# Altium integrated library NSC Interface.IntLib: 504 symbols (part 11 of 16)
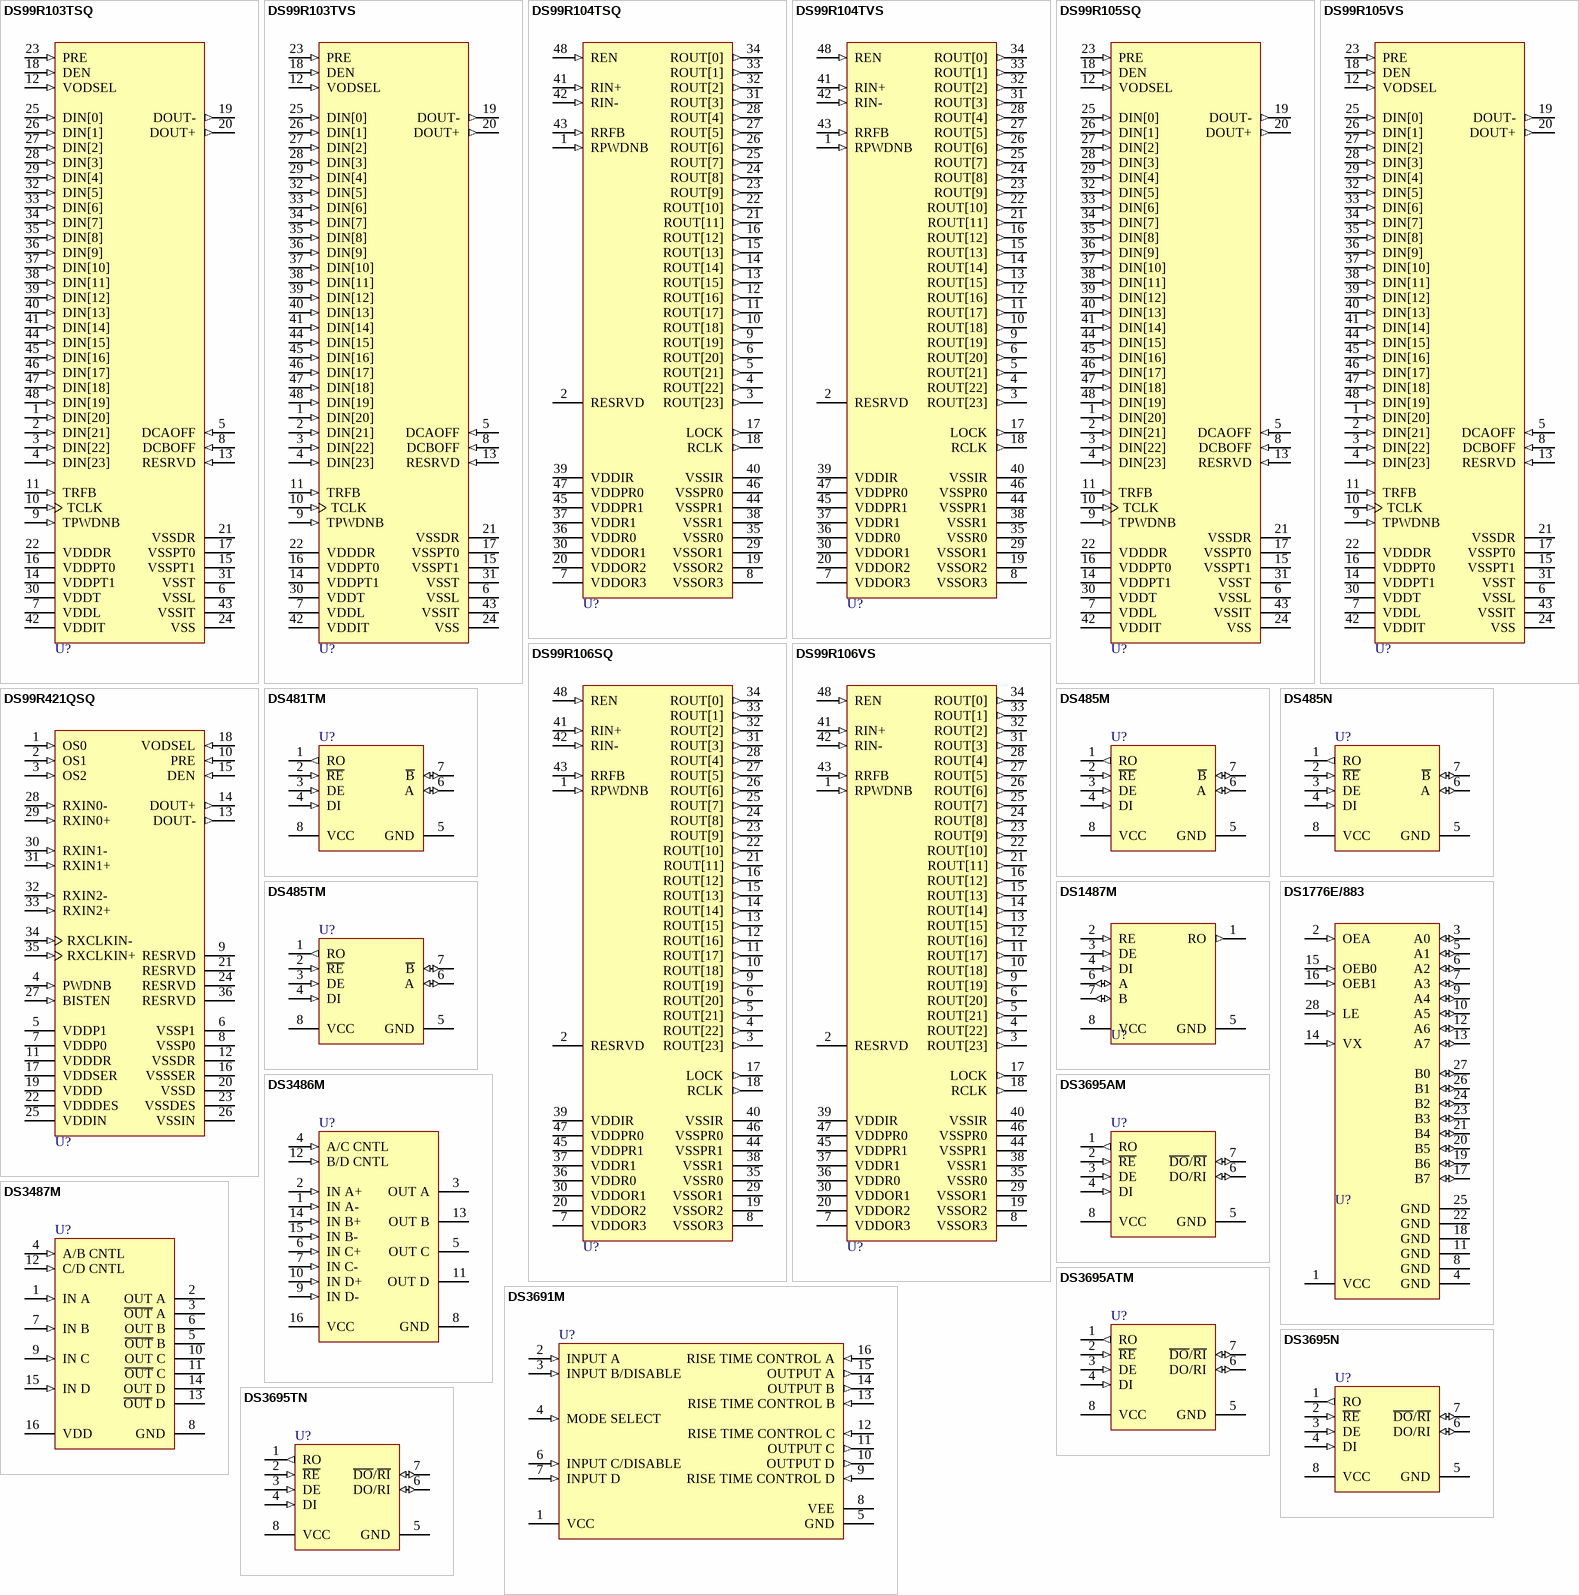
[diagram p51: symbols DS99R103TSQ to DS3695TN]

## DS3695ATM
designator U?
Multipoint RS485/RS422 Transceiver; PartNumber: DS3695ATM; Manufacturer: National Semiconductor; CompType: Interface IC; PackageTopMarking: NSZXTT*DS369*5ATM; PowerWise: N; Published: 4-Dec-2008; DatasheetVersion: Feb-1996; PackageVersion: revL, Sep-2006; PackageReference: M08A; Publisher: Altium Limited; PackageDescription: SOIC Narrow, 4.9 x 3.9 x 1.45mm, 8 Lead, 1.27mm Pitch; RoHS: O; PinCount: 8; DigiKeyPartNumber: DS3695ATM-ND; Code_JEDEC: MS-012-AA; Code_IPC: SOIC127P600-8; ComponentLink1Description: DS3695AT Datasheet; ComponentLink1URL: http://www.national.com/ds/DS/DS3695AT.pdf; ComponentLink2Description: DS3695AT Web Page; ComponentLink2URL: http://www.national.com/pf/DS/DS3695AT.html; ComponentLink3Description: M08A Package Page; ComponentLink3URL: http://www.national.com/packaging/folders/m08a.html
footprint M08A_N (SOIC, 8-Leads, Body 4.9x3.9mm, Pitch 1.27mm, IPC Medium Density)
footprint M08A_L (SOIC, 8-Leads, Body 4.9x3.9mm, Pitch 1.27mm, IPC High Density)
footprint M08A_M (SOIC, 8-Leads, Body 4.9x3.9mm, Pitch 1.27mm, IPC Low Density)
pins: 1 RO (out), 2 ~{RE} (in), 3 DE (in), 4 DI (in), 5 GND (power), 6 DO/RI (io), 7 ~{DO}/~{RI} (io), 8 VCC (power)

## DS3695N
designator U?
Multipoint RS485/RS422 Transceiver/Repeater; PartNumber: DS3695N; Manufacturer: National Semiconductor; CompType: Interface IC; PackageTopMarking: NSUZXYTT*DS3695N; PowerWise: N; Published: 4-Dec-2008; DatasheetVersion: May-1998; PackageVersion: revG, May-2006; PackageReference: N08E; Publisher: Altium Limited; PackageDescription: MDIP, .365 x .250 x .130in, 8 Lead, .100in Pitch; RoHS: O; PinCount: 8; DigiKeyPartNumber: DS3695N-ND; Code_JEDEC: MS-001-BA; ComponentLink1Description: DS3695 Datasheet; ComponentLink1URL: http://www.national.com/ds/DS/DS3695.pdf; ComponentLink2Description: DS3695 Web Page; ComponentLink2URL: http://www.national.com/pf/DS/DS3695.html; ComponentLink3Description: N08E Package Page; ComponentLink3URL: http://www.national.com/packaging/folders/n08e.html
footprint N08E (DIP, 8-Leads, Row Spacing 7.62mm, Pitch 2.54mm, Body 9.91x6.35mm)
pins: 1 RO (out), 2 ~{RE} (in), 3 DE (in), 4 DI (in), 5 GND (power), 6 DO/RI (io), 7 ~{DO}/~{RI} (io), 8 VCC (power)

## DS3695TN
designator U?
Multipoint RS485/RS422 Transceiver/Repeater; PartNumber: DS3695TN; Manufacturer: National Semiconductor; CompType: Interface IC; PackageTopMarking: NSUZXYTT*DS*3695TN; PowerWise: N; Published: 4-Dec-2008; DatasheetVersion: May-1998; PackageVersion: revG, May-2006; PackageReference: N08E; Publisher: Altium Limited; PackageDescription: MDIP, .365 x .250 x .130in, 8 Lead, .100in Pitch; RoHS: O; PinCount: 8; DigiKeyPartNumber: DS3695TN-ND; Code_JEDEC: MS-001-BA; ComponentLink1Description: DS3695T Datasheet; ComponentLink1URL: http://www.national.com/ds/DS/DS3695T.pdf; ComponentLink2Description: DS3695T Web Page; ComponentLink2URL: http://www.national.com/pf/DS/DS3695T.html; ComponentLink3Description: N08E Package Page; ComponentLink3URL: http://www.national.com/packaging/folders/n08e.html
footprint N08E (DIP, 8-Leads, Row Spacing 7.62mm, Pitch 2.54mm, Body 9.91x6.35mm)
pins: 1 RO (out), 2 ~{RE} (in), 3 DE (in), 4 DI (in), 5 GND (power), 6 DO/RI (io), 7 ~{DO}/~{RI} (io), 8 VCC (power)

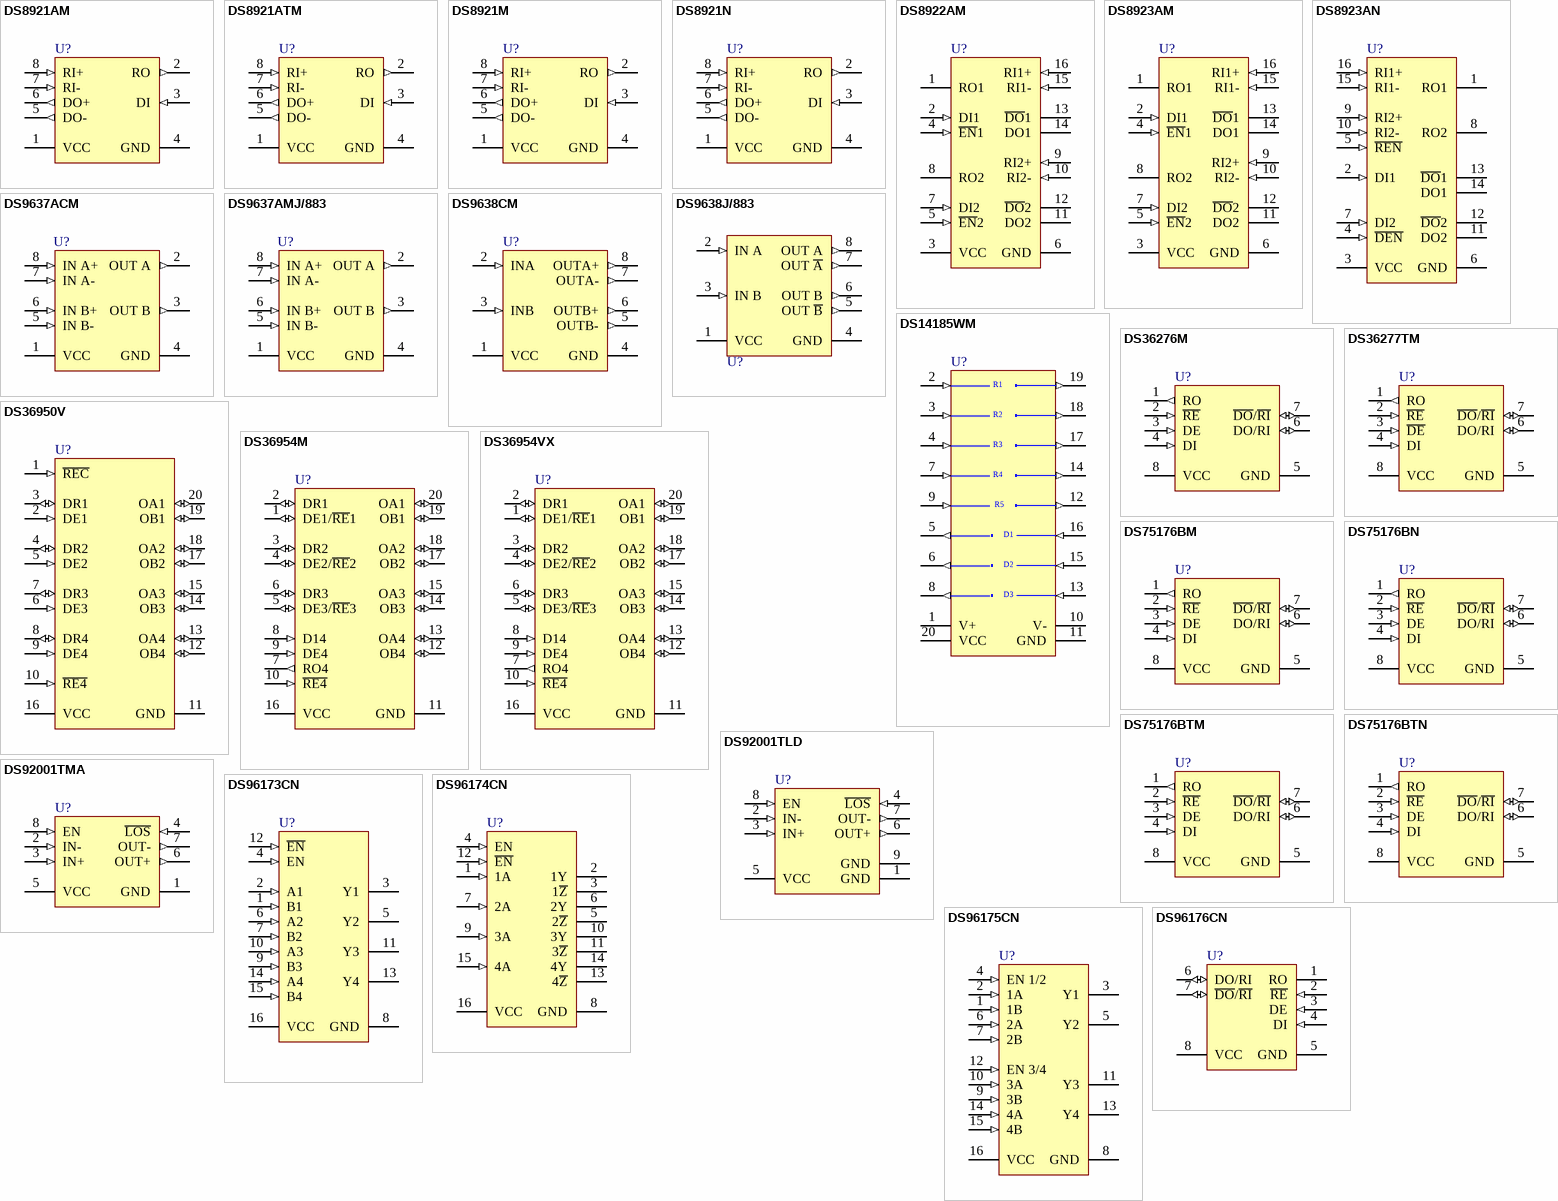
[diagram p28: symbols DS8921AM to DS96176CN]

## DS8921AM
designator U?
Differential Line Driver and Receiver Pair; PartNumber: DS8921AM; Manufacturer: National Semiconductor; CompType: Interface IC; PackageTopMarking: NSZXTT*DS89*21AM; PowerWise: N; Published: 4-Dec-2008; DatasheetVersion: May-1998; PackageVersion: revL, Sep-2006; PackageReference: M08A; Publisher: Altium Limited; PackageDescription: SOIC Narrow, 4.9 x 3.9 x 1.45mm, 8 Lead, 1.27mm Pitch; RoHS: O; PinCount: 8; DigiKeyPartNumber: DS8921AM-ND; Code_JEDEC: MS-012-AA; Code_IPC: SOIC127P600-8; ComponentLink1Description: DS8921A Datasheet; ComponentLink1URL: http://www.national.com/ds/DS/DS8921.pdf; ComponentLink2Description: DS8921A Web Page; ComponentLink2URL: http://www.national.com/pf/DS/DS8921A.html; ComponentLink3Description: M08A Package Page; ComponentLink3URL: http://www.national.com/packaging/folders/m08a.html
footprint M08A_N (SOIC, 8-Leads, Body 4.9x3.9mm, Pitch 1.27mm, IPC Medium Density)
footprint M08A_L (SOIC, 8-Leads, Body 4.9x3.9mm, Pitch 1.27mm, IPC High Density)
footprint M08A_M (SOIC, 8-Leads, Body 4.9x3.9mm, Pitch 1.27mm, IPC Low Density)
pins: 1 VCC (power), 2 RO (out), 3 DI (in), 4 GND (power), 5 DO- (out), 6 DO+ (out), 7 RI- (in), 8 RI+ (in)

## DS8921ATM
designator U?
Differential Line Driver and Receiver Pair; PartNumber: DS8921ATM; Manufacturer: National Semiconductor; CompType: Interface IC; PackageTopMarking: NSZXTT*DS892*1ATM; PowerWise: N; Published: 4-Dec-2008; DatasheetVersion: May-1998; PackageVersion: revL, Sep-2006; PackageReference: M08A; Publisher: Altium Limited; PackageDescription: SOIC Narrow, 4.9 x 3.9 x 1.45mm, 8 Lead, 1.27mm Pitch; RoHS: O; PinCount: 8; DigiKeyPartNumber: DS8921ATM-ND; Code_JEDEC: MS-012-AA; Code_IPC: SOIC127P600-8; ComponentLink1Description: DS8921AT Datasheet; ComponentLink1URL: http://www.national.com/ds/DS/DS8921.pdf; ComponentLink2Description: DS8921AT Web Page; ComponentLink2URL: http://www.national.com/pf/DS/DS8921AT.html; ComponentLink3Description: M08A Package Page; ComponentLink3URL: http://www.national.com/packaging/folders/m08a.html
footprint M08A_N (SOIC, 8-Leads, Body 4.9x3.9mm, Pitch 1.27mm, IPC Medium Density)
footprint M08A_L (SOIC, 8-Leads, Body 4.9x3.9mm, Pitch 1.27mm, IPC High Density)
footprint M08A_M (SOIC, 8-Leads, Body 4.9x3.9mm, Pitch 1.27mm, IPC Low Density)
pins: 1 VCC (power), 2 RO (out), 3 DI (in), 4 GND (power), 5 DO- (out), 6 DO+ (out), 7 RI- (in), 8 RI+ (in)

## DS8921M
designator U?
Differential Line Driver and Receiver Pair; PartNumber: DS8921M; Manufacturer: National Semiconductor; CompType: Interface IC; PackageTopMarking: NSZXTT*DS892*1M; PowerWise: N; Published: 4-Dec-2008; DatasheetVersion: May-1998; PackageVersion: revL, Sep-2006; PackageReference: M08A; Publisher: Altium Limited; PackageDescription: SOIC Narrow, 4.9 x 3.9 x 1.45mm, 8 Lead, 1.27mm Pitch; RoHS: Y; PinCount: 8; DigiKeyPartNumber: DS8921M-ND; Code_JEDEC: MS-012-AA; Code_IPC: SOIC127P600-8; ComponentLink1Description: DS8921 Datasheet; ComponentLink1URL: http://www.national.com/ds/DS/DS8921.pdf; ComponentLink2Description: DS8921 Web Page; ComponentLink2URL: http://www.national.com/pf/DS/DS8921.html; ComponentLink3Description: M08A Package Page; ComponentLink3URL: http://www.national.com/packaging/folders/m08a.html
footprint M08A_N (SOIC, 8-Leads, Body 4.9x3.9mm, Pitch 1.27mm, IPC Medium Density)
footprint M08A_L (SOIC, 8-Leads, Body 4.9x3.9mm, Pitch 1.27mm, IPC High Density)
footprint M08A_M (SOIC, 8-Leads, Body 4.9x3.9mm, Pitch 1.27mm, IPC Low Density)
pins: 1 VCC (power), 2 RO (out), 3 DI (in), 4 GND (power), 5 DO- (out), 6 DO+ (out), 7 RI- (in), 8 RI+ (in)

## DS8921N
designator U?
Differential Line Driver and Receiver Pair; PartNumber: DS8921N; Manufacturer: National Semiconductor; CompType: Interface IC; PackageTopMarking: NSUZXYTT*DS8921N; PowerWise: N; Published: 4-Dec-2008; DatasheetVersion: May-1998; PackageVersion: revG, May-2006; PackageReference: N08E; Publisher: Altium Limited; PackageDescription: MDIP, .365 x .250 x .130in, 8 Lead, .100in Pitch; RoHS: O; PinCount: 8; DigiKeyPartNumber: DS8921N-ND; Code_JEDEC: MS-001-BA; ComponentLink1Description: DS8921 Datasheet; ComponentLink1URL: http://www.national.com/ds/DS/DS8921.pdf; ComponentLink2Description: DS8921 Web Page; ComponentLink2URL: http://www.national.com/pf/DS/DS8921.html; ComponentLink3Description: N08E Package Page; ComponentLink3URL: http://www.national.com/packaging/folders/n08e.html
footprint N08E (DIP, 8-Leads, Row Spacing 7.62mm, Pitch 2.54mm, Body 9.91x6.35mm)
pins: 1 VCC (power), 2 RO (out), 3 DI (in), 4 GND (power), 5 DO- (out), 6 DO+ (out), 7 RI- (in), 8 RI+ (in)

## DS8922AM
designator U?
Tri-State RS-422 Dual Differential Line Driver and Receiver Pairs; PartNumber: DS8922AM; Manufacturer: National Semiconductor; CompType: Interface IC; PackageTopMarking: NSUZXYTT*DS8922AM; PowerWise: N; Published: 4-Dec-2008; DatasheetVersion: Jul-2004; PackageVersion: revJ, Aug-1995; PackageReference: M16A; Publisher: Altium Limited; PackageDescription: Molded Package, S.O., .150in Wide, 16 Lead; RoHS: O; PinCount: 16; DigiKeyPartNumber: DS8922AM-ND; Code_JEDEC: MS-012-AC; Code_IPC: SOIC127P600-16; ComponentLink1Description: DS8922A Datasheet; ComponentLink1URL: http://www.national.com/ds/DS/DS8922A.pdf; ComponentLink2Description: DS8922A Web Page; ComponentLink2URL: http://www.national.com/pf/DS/DS8922A.html; ComponentLink3Description: M16A Package Page; ComponentLink3URL: http://www.national.com/packaging/folders/m16a.html
footprint M16A_N (SOIC, 16-Leads, Body 9.9x3.9mm, Pitch 1.27mm, IPC Medium Density)
footprint M16A_L (SOIC, 16-Leads, Body 9.9x3.9mm, Pitch 1.27mm, IPC High Density)
footprint M16A_M (SOIC, 16-Leads, Body 9.9x3.9mm, Pitch 1.27mm, IPC Low Density)
pins: 1 RO1 (hiz), 2 DI1 (in), 3 VCC (power), 4 ~{EN}1 (in), 5 ~{EN}2 (in), 6 GND (power), 7 DI2 (in), 8 RO2 (hiz), 9 RI2+ (in), 10 RI2- (in), 11 DO2 (hiz), 12 ~{DO}2 (hiz), 13 ~{DO}1 (hiz), 14 DO1 (hiz), 15 RI1- (in), 16 RI1+ (in)

## DS8923AM
designator U?
Tri-State RS-422 Dual Differential Line Driver and Receiver Pairs; PartNumber: DS8923AM; Manufacturer: National Semiconductor; CompType: Interface IC; PackageTopMarking: NSUZXYTT*DS8923AM; PowerWise: N; Published: 4-Dec-2008; DatasheetVersion: Jul-2004; PackageVersion: revJ, Aug-1995; PackageReference: M16A; Publisher: Altium Limited; PackageDescription: Molded Package, S.O., .150in Wide, 16 Lead; RoHS: O; PinCount: 16; DigiKeyPartNumber: DS8923AM-ND; Code_JEDEC: MS-012-AC; Code_IPC: SOIC127P600-16; ComponentLink1Description: DS8923A Datasheet; ComponentLink1URL: http://www.national.com/ds/DS/DS8923A.pdf; ComponentLink2Description: DS8923A Web Page; ComponentLink2URL: http://www.national.com/pf/DS/DS8923A.html; ComponentLink3Description: M16A Package Page; ComponentLink3URL: http://www.national.com/packaging/folders/m16a.html
footprint M16A_N (SOIC, 16-Leads, Body 9.9x3.9mm, Pitch 1.27mm, IPC Medium Density)
footprint M16A_L (SOIC, 16-Leads, Body 9.9x3.9mm, Pitch 1.27mm, IPC High Density)
footprint M16A_M (SOIC, 16-Leads, Body 9.9x3.9mm, Pitch 1.27mm, IPC Low Density)
pins: 1 RO1 (hiz), 2 DI1 (in), 3 VCC (power), 4 ~{EN}1 (in), 5 ~{EN}2 (in), 6 GND (power), 7 DI2 (in), 8 RO2 (hiz), 9 RI2+ (in), 10 RI2- (in), 11 DO2 (hiz), 12 ~{DO}2 (hiz), 13 ~{DO}1 (hiz), 14 DO1 (hiz), 15 RI1- (in), 16 RI1+ (in)

## DS8923AN
designator U?
Tri-State RS-422 Dual Differential Line Driver and Receiver Pairs; PartNumber: DS8923AN; Manufacturer: National Semiconductor; CompType: Interface IC; PackageTopMarking: NSUZXYYTT*DS8923AN; PowerWise: N; Published: 4-Dec-2008; DatasheetVersion: Jul-2004; PackageVersion: revG, May-2006; PackageReference: N16E; Publisher: Altium Limited; PackageDescription: MDIP, .750 x .250 x.130in, 16 Lead, .100in Pitch; RoHS: Y; PinCount: 16; DigiKeyPartNumber: DS8923AN-ND; Code_JEDEC: MS-001-BB; ComponentLink1Description: DS8923A Datasheet; ComponentLink1URL: http://www.national.com/ds/DS/DS8923A.pdf; ComponentLink2Description: DS8923A Web Page; ComponentLink2URL: http://www.national.com/pf/DS/DS8923A.html; ComponentLink3Description: N16E Package Page; ComponentLink3URL: http://www.national.com/packaging/folders/n16e.html
footprint N16E (DIP, 16-Leads, Row Spacing 7.62mm, Pitch 2.54mm, Body 19.3x6.35mm)
pins: 1 RO1 (hiz), 2 DI1 (in), 3 VCC (power), 4 ~{DEN} (in), 5 ~{REN} (in), 6 GND (power), 7 DI2 (in), 8 RO2 (hiz), 9 RI2+ (in), 10 RI2- (in), 11 DO2 (hiz), 12 ~{DO}2 (hiz), 13 ~{DO}1 (hiz), 14 DO1 (hiz), 15 RI1- (in), 16 RI1+ (in)

## DS9637ACM
designator U?
Dual Differential Line Receiver; PartNumber: DS9637ACM; Manufacturer: National Semiconductor; CompType: Interface IC; PackageTopMarking: NSZXTT*DS963*7ACM; PowerWise: N; Published: 4-Dec-2008; DatasheetVersion: Dec-2007; PackageVersion: revL, Sep-2006; PackageReference: M08A; Publisher: Altium Limited; PackageDescription: SOIC Narrow, 4.9 x 3.9 x 1.45mm, 8 Lead, 1.27mm Pitch; RoHS: O; PinCount: 8; DigiKeyPartNumber: DS9637ACM-ND; Code_JEDEC: MS-012-AA; Code_IPC: SOIC127P600-8; ComponentLink1Description: DS9637A Datasheet; ComponentLink1URL: http://www.national.com/ds/DS/DS9637A.pdf; ComponentLink2Description: DS9637A Web Page; ComponentLink2URL: http://www.national.com/pf/DS/DS9637A.html; ComponentLink3Description: M08A Package Page; ComponentLink3URL: http://www.national.com/packaging/folders/m08a.html
footprint M08A_N (SOIC, 8-Leads, Body 4.9x3.9mm, Pitch 1.27mm, IPC Medium Density)
footprint M08A_L (SOIC, 8-Leads, Body 4.9x3.9mm, Pitch 1.27mm, IPC High Density)
footprint M08A_M (SOIC, 8-Leads, Body 4.9x3.9mm, Pitch 1.27mm, IPC Low Density)
pins: 1 VCC (power), 2 OUT A (out), 3 OUT B (out), 4 GND (power), 5 IN B- (in), 6 IN B+ (in), 7 IN A- (in), 8 IN A+ (in)

## DS9637AMJ/883
designator U?
Dual Differential Line Receiver; PartNumber: DS9637AMJ/883; Manufacturer: National Semiconductor; CompType: Interface IC; PackageTopMarking: NSZSSXXYYA*DS9637AMJ/*883 Q 5962-*8752401PA; PowerWise: N; Published: 4-Dec-2008; DatasheetVersion: Dec-2007; PackageVersion: revM, Jul-2002; PackageReference: J08A; Publisher: Altium Limited; PackageDescription: Cerdip, .400 x .310in Body, 8 Lead, .300in Centers, .100in Pitch; RoHS: N; PinCount: 8; ComponentLink1Description: DS9637A Datasheet; ComponentLink1URL: http://www.national.com/ds/DS/DS9637A.pdf; ComponentLink2Description: DS9637A Web Page; ComponentLink2URL: http://www.national.com/pf/DS/DS9637A.html; ComponentLink3Description: J08A Package Page; ComponentLink3URL: http://www.national.com/packaging/folders/j08a.html
footprint J08A (DIP, 8-Leads, Row Spacing 7.62mm, Pitch 2.54mm, Body 9.78x6.73mm)
pins: 1 VCC (power), 2 OUT A (out), 3 OUT B (out), 4 GND (power), 5 IN B- (in), 6 IN B+ (in), 7 IN A- (in), 8 IN A+ (in)

## DS9638CM
designator U?
RS-422 Dual High Speed Differential Line Driver; PartNumber: DS9638CM; Manufacturer: National Semiconductor; CompType: Interface IC; PackageTopMarking: NSZXTT*DS963*8CM; PowerWise: N; Published: 4-Dec-2008; DatasheetVersion: May-1998; PackageVersion: revL, Sep-2006; PackageReference: M08A; Publisher: Altium Limited; PackageDescription: SOIC Narrow, 4.9 x 3.9 x 1.45mm, 8 Lead, 1.27mm Pitch; RoHS: Y; PinCount: 8; DigiKeyPartNumber: DS9638CM-ND; Code_JEDEC: MS-012-AA; Code_IPC: SOIC127P600-8; ComponentLink1Description: DS9638 Datasheet; ComponentLink1URL: http://www.national.com/ds/DS/DS9638.pdf; ComponentLink2Description: DS9638 Web Page; ComponentLink2URL: http://www.national.com/pf/DS/DS9638.html; ComponentLink3Description: M08A Package Page; ComponentLink3URL: http://www.national.com/packaging/folders/m08a.html
footprint M08A_N (SOIC, 8-Leads, Body 4.9x3.9mm, Pitch 1.27mm, IPC Medium Density)
footprint M08A_L (SOIC, 8-Leads, Body 4.9x3.9mm, Pitch 1.27mm, IPC High Density)
footprint M08A_M (SOIC, 8-Leads, Body 4.9x3.9mm, Pitch 1.27mm, IPC Low Density)
pins: 1 VCC (power), 2 INA (in), 3 INB (in), 4 GND (power), 5 OUTB- (out), 6 OUTB+ (out), 7 OUTA- (out), 8 OUTA+ (out)

## DS9638J/883
designator U?
RS-422 Dual High Speed Differential Line Driver; PartNumber: DS9638J/883; Manufacturer: National Semiconductor; CompType: Interface IC; PackageTopMarking: NSZSSXXYYA*DS9638J/883*Q 5962-*8754601PA; PowerWise: N; Published: 4-Dec-2008; DatasheetVersion: May-1998; PackageVersion: revM, Jul-2002; PackageReference: J08A; Publisher: Altium Limited; PackageDescription: Cerdip, .400 x .310in Body, 8 Lead, .300in Centers, .100in Pitch; RoHS: N; PinCount: 8; ComponentLink1Description: DS9638 Datasheet; ComponentLink1URL: http://www.national.com/ds/DS/DS9638.pdf; ComponentLink2Description: DS9638 Web Page; ComponentLink2URL: http://www.national.com/pf/DS/DS9638.html; ComponentLink3Description: J08A Package Page; ComponentLink3URL: http://www.national.com/packaging/folders/j08a.html
footprint J08A (DIP, 8-Leads, Row Spacing 7.62mm, Pitch 2.54mm, Body 9.78x6.73mm)
pins: 1 VCC (power), 2 IN A (in), 3 IN B (in), 4 GND (power), 5 OUT ~{B} (out), 6 OUT B (out), 7 OUT ~{A} (out), 8 OUT A (out)

## DS14185WM
designator U?
EIA/TIA-232 3 Driver x 5 Receiver; PartNumber: DS14185WM; Manufacturer: National Semiconductor; CompType: Interface IC; PackageTopMarking: NSUZXYTT*DS14185WM; PowerWise: N; Published: 4-Dec-2008; DatasheetVersion: Apr-1999; PackageVersion: revG, Jan-1996; PackageReference: M20B; Publisher: Altium Limited; PackageDescription: Molded Package, S.O., .300in Wide, 20 Lead; RoHS: O; PinCount: 20; DigiKeyPartNumber: DS14185WM-ND; Code_JEDEC: MS-013-AC; Code_IPC: SOIC127P1030-20; ComponentLink1Description: DS14185 Datasheet; ComponentLink1URL: http://www.national.com/ds/DS/DS14185.pdf; ComponentLink2Description: DS14185 Web Page; ComponentLink2URL: http://www.national.com/pf/DS/DS14185.html; ComponentLink3Description: M20B Package Page; ComponentLink3URL: http://www.national.com/packaging/folders/m20b.html
footprint M20B_N (SOIC, 20-Leads, Body 12.8x7.5mm, Pitch 1.27mm, IPC Medium Density)
footprint M20B_L (SOIC, 20-Leads, Body 12.8x7.5mm, Pitch 1.27mm, IPC High Density)
footprint M20B_M (SOIC, 20-Leads, Body 12.8x7.5mm, Pitch 1.27mm, IPC Low Density)
pins: 1 V+ (power), 2 RIN1 (in), 3 RIN2 (in), 4 RIN3 (in), 5 DOUT1 (out), 6 DOUT2 (out), 7 RIN4 (in), 8 DOUT3 (out), 9 RIN5 (in), 10 V- (power), 11 GND (power), 12 ROUT5 (out), 13 DIN3 (in), 14 ROUT4 (out), 15 DIN2 (in), 16 DIN1 (in), 17 ROUT3 (out), 18 ROUT2 (out), 19 ROUT1 (out), 20 VCC (power)
text: R1; R2; R3; R4; R5; D1; D2; D3

## DS36276M
designator U?
FailSafe Multipoint Transceiver; PartNumber: DS36276M; Manufacturer: National Semiconductor; CompType: Interface IC; PackageTopMarking: NSZXTT*DS36*276M; PowerWise: N; Published: 4-Dec-2008; DatasheetVersion: Jul-1998; PackageVersion: revL, Sep-2006; PackageReference: M08A; Publisher: Altium Limited; PackageDescription: SOIC Narrow, 4.9 x 3.9 x 1.45mm, 8 Lead, 1.27mm Pitch; RoHS: O; PinCount: 8; DigiKeyPartNumber: DS36276M-ND; Code_JEDEC: MS-012-AA; Code_IPC: SOIC127P600-8; ComponentLink1Description: DS36276 Datasheet; ComponentLink1URL: http://www.national.com/ds/DS/DS36276.pdf; ComponentLink2Description: DS36276 Web Page; ComponentLink2URL: http://www.national.com/pf/DS/DS36276.html; ComponentLink3Description: M08A Package Page; ComponentLink3URL: http://www.national.com/packaging/folders/m08a.html
footprint M08A_N (SOIC, 8-Leads, Body 4.9x3.9mm, Pitch 1.27mm, IPC Medium Density)
footprint M08A_L (SOIC, 8-Leads, Body 4.9x3.9mm, Pitch 1.27mm, IPC High Density)
footprint M08A_M (SOIC, 8-Leads, Body 4.9x3.9mm, Pitch 1.27mm, IPC Low Density)
pins: 1 RO (out), 2 ~{RE} (in), 3 DE (in), 4 DI (in), 5 GND (power), 6 DO/RI (io), 7 ~{DO}/~{RI} (io), 8 VCC (power)

## DS36277TM
designator U?
Dominant Mode Multipoint Transceiver; PartNumber: DS36277TM; Manufacturer: National Semiconductor; CompType: Interface IC; PackageTopMarking: NSZXTT*DS362*77TM; Published: 4-Dec-2008; DatasheetVersion: Feb-2002; PackageVersion: revL, Sep-2006; PackageReference: M08A; Publisher: Altium Limited; PackageDescription: SOIC Narrow, 4.9 x 3.9 x 1.45mm, 8 Lead, 1.27mm Pitch; RoHS: O; PinCount: 8; DigiKeyPartNumber: DS36277TM-ND; Code_JEDEC: MS-012-AA; Code_IPC: SOIC127P600-8; ComponentLink1Description: DS36277 Datasheet; ComponentLink1URL: http://www.national.com/ds/DS/DS36277.pdf; ComponentLink2Description: DS36277 Web Page; ComponentLink2URL: http://www.national.com/pf/DS/DS36277.html; ComponentLink3Description: M08A Package Page; ComponentLink3URL: http://www.national.com/packaging/folders/m08a.html
footprint M08A_N (SOIC, 8-Leads, Body 4.9x3.9mm, Pitch 1.27mm, IPC Medium Density)
footprint M08A_L (SOIC, 8-Leads, Body 4.9x3.9mm, Pitch 1.27mm, IPC High Density)
footprint M08A_M (SOIC, 8-Leads, Body 4.9x3.9mm, Pitch 1.27mm, IPC Low Density)
pins: 1 RO (out), 2 ~{RE} (in), 3 ~{DE} (in), 4 DI (in), 5 GND (power), 6 DO/RI (io), 7 ~{DO}/~{RI} (io), 8 VCC (power)

## DS36950V
designator U?
Quad Differential Bus Transceiver; PartNumber: DS36950V; Manufacturer: National Semiconductor; CompType: Interface IC; PackageTopMarking: NSUZXYTT*DS36950V; Published: 4-Dec-2008; DatasheetVersion: Jul-1998; PackageVersion: revL, Dec-1993; PackageReference: V20A; Publisher: Altium Limited; PackageDescription: Plastic Chip Carrier, Sq., .050mil Lead Pitch, 20 Lead; RoHS: O; PinCount: 20; DigiKeyPartNumber: DS36950V-ND; Code_JEDEC: MO-047-AA; Code_IPC: PLCC-20; ComponentLink1Description: DS36950 Datasheet; ComponentLink1URL: http://www.national.com/ds/DS/DS36950.pdf; ComponentLink2Description: DS36950 Web Page; ComponentLink2URL: http://www.national.com/pf/DS/DS36950.html; ComponentLink3Description: V20A Package Page; ComponentLink3URL: http://www.national.com/packaging/folders/v20a.html
footprint V20A_N (Leaded Chip Carrier, 20-Leads, Body 9x9mm, Pitch 1.27mm, IPC Medium Density)
footprint V20A_L (Leaded Chip Carrier, 20-Leads, Body 9x9mm, Pitch 1.27mm, IPC High Density)
footprint V20A_M (Leaded Chip Carrier, 20-Leads, Body 9x9mm, Pitch 1.27mm, IPC Low Density)
pins: 1 ~{REC} (in), 2 DE1 (in), 3 DR1 (io), 4 DR2 (io), 5 DE2 (in), 6 DE3 (in), 7 DR3 (io), 8 DR4 (io), 9 DE4 (in), 10 ~{RE4} (in), 11 GND (power), 12 OB4 (io), 13 OA4 (io), 14 OB3 (io), 15 OA3 (io), 16 VCC (power), 17 OB2 (io), 18 OA2 (io), 19 OB1 (io), 20 OA1 (io)

## DS36954M
designator U?
Quad Differential Bus Transceiver; PartNumber: DS36954M; Manufacturer: National Semiconductor; CompType: Interface IC; PackageTopMarking: NSUZXYTT*DS36954*M; PowerWise: N; Published: 4-Dec-2008; DatasheetVersion: Jul-1998; PackageVersion: revG, Jan-1996; PackageReference: M20B; Publisher: Altium Limited; PackageDescription: Molded Package, S.O., .300in Wide, 20 Lead; RoHS: O; PinCount: 20; DigiKeyPartNumber: DS36954M-ND; Code_JEDEC: MS-013-AC; Code_IPC: SOIC127P1030-20; ComponentLink1Description: DS36954 Datasheet; ComponentLink1URL: http://www.national.com/ds/DS/DS36954.pdf; ComponentLink2Description: DS36954 Web Page; ComponentLink2URL: http://www.national.com/pf/DS/DS36954.html; ComponentLink3Description: M20B Package Page; ComponentLink3URL: http://www.national.com/packaging/folders/m20b.html
footprint M20B_N (SOIC, 20-Leads, Body 12.8x7.5mm, Pitch 1.27mm, IPC Medium Density)
footprint M20B_L (SOIC, 20-Leads, Body 12.8x7.5mm, Pitch 1.27mm, IPC High Density)
footprint M20B_M (SOIC, 20-Leads, Body 12.8x7.5mm, Pitch 1.27mm, IPC Low Density)
pins: 1 DE1/~{RE}1 (io), 2 DR1 (io), 3 DR2 (io), 4 DE2/~{RE}2 (io), 5 DE3/~{RE}3 (io), 6 DR3 (io), 7 RO4 (out), 8 D14 (in), 9 DE4 (in), 10 ~{RE4} (in), 11 GND (power), 12 OB4 (io), 13 OA4 (io), 14 OB3 (io), 15 OA3 (io), 16 VCC (power), 17 OB2 (io), 18 OA2 (io), 19 OB1 (io), 20 OA1 (io)

## DS36954VX
designator U?
Quad Differential Bus Transceiver; PartNumber: DS36954VX; Manufacturer: National Semiconductor; CompType: Interface IC; PackageTopMarking: NSUZXYTT*DS36954V; PowerWise: N; Published: 4-Dec-2008; DatasheetVersion: Jul-1998; PackageVersion: revL, Dec-1993; PackageReference: V20A; Publisher: Altium Limited; PackageDescription: Plastic Chip Carrier, Sq., .050mil Lead Pitch, 20 Lead; RoHS: O; PinCount: 20; DigiKeyPartNumber: DS36954VX-ND; Code_JEDEC: MO-047-AA; Code_IPC: PLCC-20; ComponentLink1Description: DS36954 Datasheet; ComponentLink1URL: http://www.national.com/ds/DS/DS36954.pdf; ComponentLink2Description: DS36954 Web Page; ComponentLink2URL: http://www.national.com/pf/DS/DS36954.html; ComponentLink3Description: V20A Package Page; ComponentLink3URL: http://www.national.com/packaging/folders/v20a.html
footprint V20A_N (Leaded Chip Carrier, 20-Leads, Body 9x9mm, Pitch 1.27mm, IPC Medium Density)
footprint V20A_L (Leaded Chip Carrier, 20-Leads, Body 9x9mm, Pitch 1.27mm, IPC High Density)
footprint V20A_M (Leaded Chip Carrier, 20-Leads, Body 9x9mm, Pitch 1.27mm, IPC Low Density)
pins: 1 DE1/~{RE}1 (io), 2 DR1 (io), 3 DR2 (io), 4 DE2/~{RE}2 (io), 5 DE3/~{RE}3 (io), 6 DR3 (io), 7 RO4 (out), 8 D14 (in), 9 DE4 (in), 10 ~{RE4} (in), 11 GND (power), 12 OB4 (io), 13 OA4 (io), 14 OB3 (io), 15 OA3 (io), 16 VCC (power), 17 OB2 (io), 18 OA2 (io), 19 OB1 (io), 20 OA1 (io)

## DS75176BM
designator U?
Multipoint RS-485/RS-422 Transceiver; PartNumber: DS75176BM; Manufacturer: National Semiconductor; CompType: Interface IC; PackageTopMarking: NSZXTT*DS751*76BM; PowerWise: N; Published: 4-Dec-2008; DatasheetVersion: Jul-2004; PackageVersion: revL, Sep-2006; PackageReference: M08A; Publisher: Altium Limited; PackageDescription: SOIC Narrow, 4.9 x 3.9 x 1.45mm, 8 Lead, 1.27mm Pitch; RoHS: O; PinCount: 8; DigiKeyPartNumber: DS75176BM-ND; Code_JEDEC: MS-012-AA; Code_IPC: SOIC127P600-8; ComponentLink1Description: DS75176B Datasheet; ComponentLink1URL: http://www.national.com/ds/DS/DS75176B.pdf; ComponentLink2Description: DS75176B Web Page; ComponentLink2URL: http://www.national.com/pf/DS/DS75176B.html; ComponentLink3Description: M08A Package Page; ComponentLink3URL: http://www.national.com/packaging/folders/m08a.html
footprint M08A_N (SOIC, 8-Leads, Body 4.9x3.9mm, Pitch 1.27mm, IPC Medium Density)
footprint M08A_L (SOIC, 8-Leads, Body 4.9x3.9mm, Pitch 1.27mm, IPC High Density)
footprint M08A_M (SOIC, 8-Leads, Body 4.9x3.9mm, Pitch 1.27mm, IPC Low Density)
pins: 1 RO (out), 2 ~{RE} (in), 3 DE (in), 4 DI (in), 5 GND (power), 6 DO/RI (io), 7 ~{DO}/~{RI} (io), 8 VCC (power)

## DS75176BN
designator U?
Multipoint RS-485/RS-422 Transceiver; PartNumber: DS75176BN; Manufacturer: National Semiconductor; CompType: Interface IC; PackageTopMarking: NSUZXYTT*DS75176BN; PowerWise: N; Published: 4-Dec-2008; DatasheetVersion: Jul-2004; PackageVersion: revG, May-2006; PackageReference: N08E; Publisher: Altium Limited; PackageDescription: MDIP, .365 x .250 x .130in, 8 Lead, .100in Pitch; RoHS: O; PinCount: 8; DigiKeyPartNumber: DS75176BN-ND; Code_JEDEC: MS-001-BA; ComponentLink1Description: DS75176B Datasheet; ComponentLink1URL: http://www.national.com/ds/DS/DS75176B.pdf; ComponentLink2Description: DS75176B Web Page; ComponentLink2URL: http://www.national.com/pf/DS/DS75176B.html; ComponentLink3Description: N08E Package Page; ComponentLink3URL: http://www.national.com/packaging/folders/n08e.html
footprint N08E (DIP, 8-Leads, Row Spacing 7.62mm, Pitch 2.54mm, Body 9.91x6.35mm)
pins: 1 RO (out), 2 ~{RE} (in), 3 DE (in), 4 DI (in), 5 GND (power), 6 DO/RI (io), 7 ~{DO}/~{RI} (io), 8 VCC (power)

## DS75176BTM
designator U?
Multipoint RS-485/RS-422 Transceiver; PartNumber: DS75176BTM; Manufacturer: National Semiconductor; CompType: Interface IC; PackageTopMarking: NSZXTT*DS751*76BTM; PowerWise: N; Published: 4-Dec-2008; DatasheetVersion: Jul-2004; PackageVersion: revL, Sep-2006; PackageReference: M08A; Publisher: Altium Limited; PackageDescription: SOIC Narrow, 4.9 x 3.9 x 1.45mm, 8 Lead, 1.27mm Pitch; RoHS: O; PinCount: 8; DigiKeyPartNumber: DS75176BTM-ND; Code_JEDEC: MS-012-AA; Code_IPC: SOIC127P600-8; ComponentLink1Description: DS75176BT Datasheet; ComponentLink1URL: http://www.national.com/ds/DS/DS75176BT.pdf; ComponentLink2Description: DS75176BT Web Page; ComponentLink2URL: http://www.national.com/pf/DS/DS75176BT.html; ComponentLink3Description: M08A Package Page; ComponentLink3URL: http://www.national.com/packaging/folders/m08a.html
footprint M08A_N (SOIC, 8-Leads, Body 4.9x3.9mm, Pitch 1.27mm, IPC Medium Density)
footprint M08A_L (SOIC, 8-Leads, Body 4.9x3.9mm, Pitch 1.27mm, IPC High Density)
footprint M08A_M (SOIC, 8-Leads, Body 4.9x3.9mm, Pitch 1.27mm, IPC Low Density)
pins: 1 RO (out), 2 ~{RE} (in), 3 DE (in), 4 DI (in), 5 GND (power), 6 DO/RI (io), 7 ~{DO}/~{RI} (io), 8 VCC (power)

## DS75176BTN
designator U?
Multipoint RS-485/RS-422 Transceiver; PartNumber: DS75176BTN; Manufacturer: National Semiconductor; CompType: Interface IC; PackageTopMarking: NSUZXYTT*DS75176*BTN; PowerWise: N; Published: 4-Dec-2008; DatasheetVersion: Jul-2004; PackageVersion: revG, May-2006; PackageReference: N08E; Publisher: Altium Limited; PackageDescription: MDIP, .365 x .250 x .130in, 8 Lead, .100in Pitch; RoHS: O; PinCount: 8; DigiKeyPartNumber: DS75176BTN-ND; Code_JEDEC: MS-001-BA; ComponentLink1Description: DS75176BT Datasheet; ComponentLink1URL: http://www.national.com/ds/DS/DS75176BT.pdf; ComponentLink2Description: DS75176BT Web Page; ComponentLink2URL: http://www.national.com/pf/DS/DS75176BT.html; ComponentLink3Description: N08E Package Page; ComponentLink3URL: http://www.national.com/packaging/folders/n08e.html
footprint N08E (DIP, 8-Leads, Row Spacing 7.62mm, Pitch 2.54mm, Body 9.91x6.35mm)
pins: 1 RO (out), 2 ~{RE} (in), 3 DE (in), 4 DI (in), 5 GND (power), 6 DO/RI (io), 7 ~{DO}/~{RI} (io), 8 VCC (power)

## DS92001TLD
designator U?
3.3V B/LVDS-BLVDS Buffer; PartNumber: DS92001TLD; Manufacturer: National Semiconductor; CompType: Interface IC; PackageTopMarking: ZXYTT*92001; PowerWise: N; Published: 4-Dec-2008; DatasheetVersion: Sep-2006; PackageVersion: revC, Nov-2002; PackageReference: LDA08A; Publisher: Altium Limited; PackageDescription: LLP, Plastic, Dual, 3 x 3 x 0.75mm Body, 8 Lead, 0.5mm Pitch; RoHS: O; PinCount: 8; DigiKeyPartNumber: DS92001TLDTR-ND; ComponentLink1Description: DS92001 Datasheet; ComponentLink1URL: http://www.national.com/ds/DS/DS92001.pdf; ComponentLink2Description: DS92001 Web Page; ComponentLink2URL: http://www.national.com/pf/DS/DS92001.html; ComponentLink3Description: LDA08A Package Page; ComponentLink3URL: http://www.national.com/packaging/folders/lda08a.html
footprint LDA08A (PSON, 8-Leads, Body 3x3mm, Pitch 0.5mm, NSC Recommended)
pins: 1 GND (power), 2 IN- (in), 3 IN+ (in), 4 ~{LOS} (in), 5 VCC (power), 6 OUT+ (out), 7 OUT- (out), 8 EN (in), 9 GND (power)

## DS92001TMA
designator U?
3.3V B/LVDS-BLVDS Buffer; PartNumber: DS92001TMA; Manufacturer: National Semiconductor; CompType: Interface IC; PackageTopMarking: NSZXTT*92001*TMA; PowerWise: N; Published: 4-Dec-2008; DatasheetVersion: Sep-2006; PackageVersion: revL, Sep-2006; PackageReference: M08A; Publisher: Altium Limited; PackageDescription: SOIC Narrow, 4.9 x 3.9 x 1.45mm, 8 Lead, 1.27mm Pitch; RoHS: Y; PinCount: 8; DigiKeyPartNumber: DS92001TMA-ND; Code_JEDEC: MS-012-AA; Code_IPC: SOIC127P600-8; ComponentLink1Description: DS92001 Datasheet; ComponentLink1URL: http://www.national.com/ds/DS/DS92001.pdf; ComponentLink2Description: DS92001 Web Page; ComponentLink2URL: http://www.national.com/pf/DS/DS92001.html; ComponentLink3Description: M08A Package Page; ComponentLink3URL: http://www.national.com/packaging/folders/m08a.html
footprint M08A_N (SOIC, 8-Leads, Body 4.9x3.9mm, Pitch 1.27mm, IPC Medium Density)
footprint M08A_L (SOIC, 8-Leads, Body 4.9x3.9mm, Pitch 1.27mm, IPC High Density)
footprint M08A_M (SOIC, 8-Leads, Body 4.9x3.9mm, Pitch 1.27mm, IPC Low Density)
pins: 1 GND (power), 2 IN- (in), 3 IN+ (in), 4 ~{LOS} (in), 5 VCC (power), 6 OUT+ (out), 7 OUT- (out), 8 EN (in)

## DS96173CN
designator U?
RS-485/RS-422 Quad Differential Line Receivers; PartNumber: DS96173CN; Manufacturer: National Semiconductor; CompType: Interface IC; PackageTopMarking: NSUZXYYTT*DS96173CN; Published: 4-Dec-2008; DatasheetVersion: Jun-1998; PackageVersion: revG, May-2006; PackageReference: N16E; Publisher: Altium Limited; PackageDescription: MDIP, .750 x .250 x.130in, 16 Lead, .100in Pitch; RoHS: Y; PinCount: 16; DigiKeyPartNumber: DS96173CN-ND; Code_JEDEC: MS-001-BB; ComponentLink1Description: DS96173 Datasheet; ComponentLink1URL: http://www.national.com/ds/DS/DS96173.pdf; ComponentLink2Description: DS96173 Web Page; ComponentLink2URL: http://www.national.com/pf/DS/DS96173.html; ComponentLink3Description: N16E Package Page; ComponentLink3URL: http://www.national.com/packaging/folders/n16e.html
footprint N16E (DIP, 16-Leads, Row Spacing 7.62mm, Pitch 2.54mm, Body 19.3x6.35mm)
pins: 1 B1 (in), 2 A1 (in), 3 Y1 (hiz), 4 EN (in), 5 Y2 (hiz), 6 A2 (in), 7 B2 (in), 8 GND (power), 9 B3 (in), 10 A3 (in), 11 Y3 (hiz), 12 ~{EN} (in), 13 Y4 (hiz), 14 A4 (in), 15 B4 (in), 16 VCC (power)

## DS96174CN
designator U?
RS-485/RS-422 Quad Differential Line Driver; PartNumber: DS96174CN; Manufacturer: National Semiconductor; CompType: Interface IC; PackageTopMarking: NSUZXYYTT*DS96174CN; PowerWise: N; Published: 4-Dec-2008; DatasheetVersion: Jun-1998; PackageVersion: revG, May-2006; PackageReference: N16E; Publisher: Altium Limited; PackageDescription: MDIP, .750 x .250 x.130in, 16 Lead, .100in Pitch; RoHS: O; PinCount: 16; DigiKeyPartNumber: DS96174CN-ND; Code_JEDEC: MS-001-BB; ComponentLink1Description: DS96174 Datasheet; ComponentLink1URL: http://www.national.com/ds/DS/DS96174.pdf; ComponentLink2Description: DS96174 Web Page; ComponentLink2URL: http://www.national.com/pf/DS/DS96174.html; ComponentLink3Description: N16E Package Page; ComponentLink3URL: http://www.national.com/packaging/folders/n16e.html
footprint N16E (DIP, 16-Leads, Row Spacing 7.62mm, Pitch 2.54mm, Body 19.3x6.35mm)
pins: 1 1A (in), 2 1Y (hiz), 3 1~{Z} (hiz), 4 EN (in), 5 2~{Z} (hiz), 6 2Y (hiz), 7 2A (in), 8 GND (power), 9 3A (in), 10 3Y (hiz), 11 3~{Z} (hiz), 12 ~{EN} (in), 13 4~{Z} (hiz), 14 4Y (hiz), 15 4A (in), 16 VCC (power)

## DS96175CN
designator U?
RS-485/RS-422 Quad Differential Line Receiver; PartNumber: DS96175CN; Manufacturer: National Semiconductor; CompType: Interface IC; PackageTopMarking: NSUZXYYTT*DS96175CN; PowerWise: N; Published: 4-Dec-2008; DatasheetVersion: Jun-1998; PackageVersion: revG, May-2006; PackageReference: N16E; Publisher: Altium Limited; PackageDescription: MDIP, .750 x .250 x.130in, 16 Lead, .100in Pitch; RoHS: O; PinCount: 16; DigiKeyPartNumber: DS96175CN-ND; Code_JEDEC: MS-001-BB; ComponentLink1Description: DS96175 Datasheet; ComponentLink1URL: http://www.national.com/ds/DS/DS96175.pdf; ComponentLink2Description: DS96175 Web Page; ComponentLink2URL: http://www.national.com/pf/DS/DS96175.html; ComponentLink3Description: N16E Package Page; ComponentLink3URL: http://www.national.com/packaging/folders/n16e.html
footprint N16E (DIP, 16-Leads, Row Spacing 7.62mm, Pitch 2.54mm, Body 19.3x6.35mm)
pins: 1 1B (in), 2 1A (in), 3 Y1 (hiz), 4 EN 1/2 (in), 5 Y2 (hiz), 6 2A (in), 7 2B (in), 8 GND (power), 9 3B (in), 10 3A (in), 11 Y3 (hiz), 12 EN 3/4 (in), 13 Y4 (hiz), 14 4A (in), 15 4B (in), 16 VCC (power)

## DS96176CN
designator U?
RS-485/RS-422 Differential Bus Transceiver; PartNumber: DS96176CN; Manufacturer: National Semiconductor; CompType: Interface IC; PackageTopMarking: NSUZXYTT*DS96176CN; PowerWise: N; Published: 4-Dec-2008; DatasheetVersion: May-1998; PackageVersion: revG, May-2006; PackageReference: N08E; Publisher: Altium Limited; PackageDescription: MDIP, .365 x .250 x .130in, 8 Lead, .100in Pitch; RoHS: O; PinCount: 8; DigiKeyPartNumber: DS96176CN-ND; Code_JEDEC: MS-001-BA; ComponentLink1Description: DS96176 Datasheet; ComponentLink1URL: http://www.national.com/ds/DS/DS96176.pdf; ComponentLink2Description: DS96176 Web Page; ComponentLink2URL: http://www.national.com/pf/DS/DS96176.html; ComponentLink3Description: N08E Package Page; ComponentLink3URL: http://www.national.com/packaging/folders/n08e.html
footprint N08E (DIP, 8-Leads, Row Spacing 7.62mm, Pitch 2.54mm, Body 9.91x6.35mm)
pins: 1 RO (hiz), 2 ~{RE} (in), 3 DE (in), 4 DI (in), 5 GND (power), 6 DO/RI (io), 7 ~{DO}/~{RI} (io), 8 VCC (power)

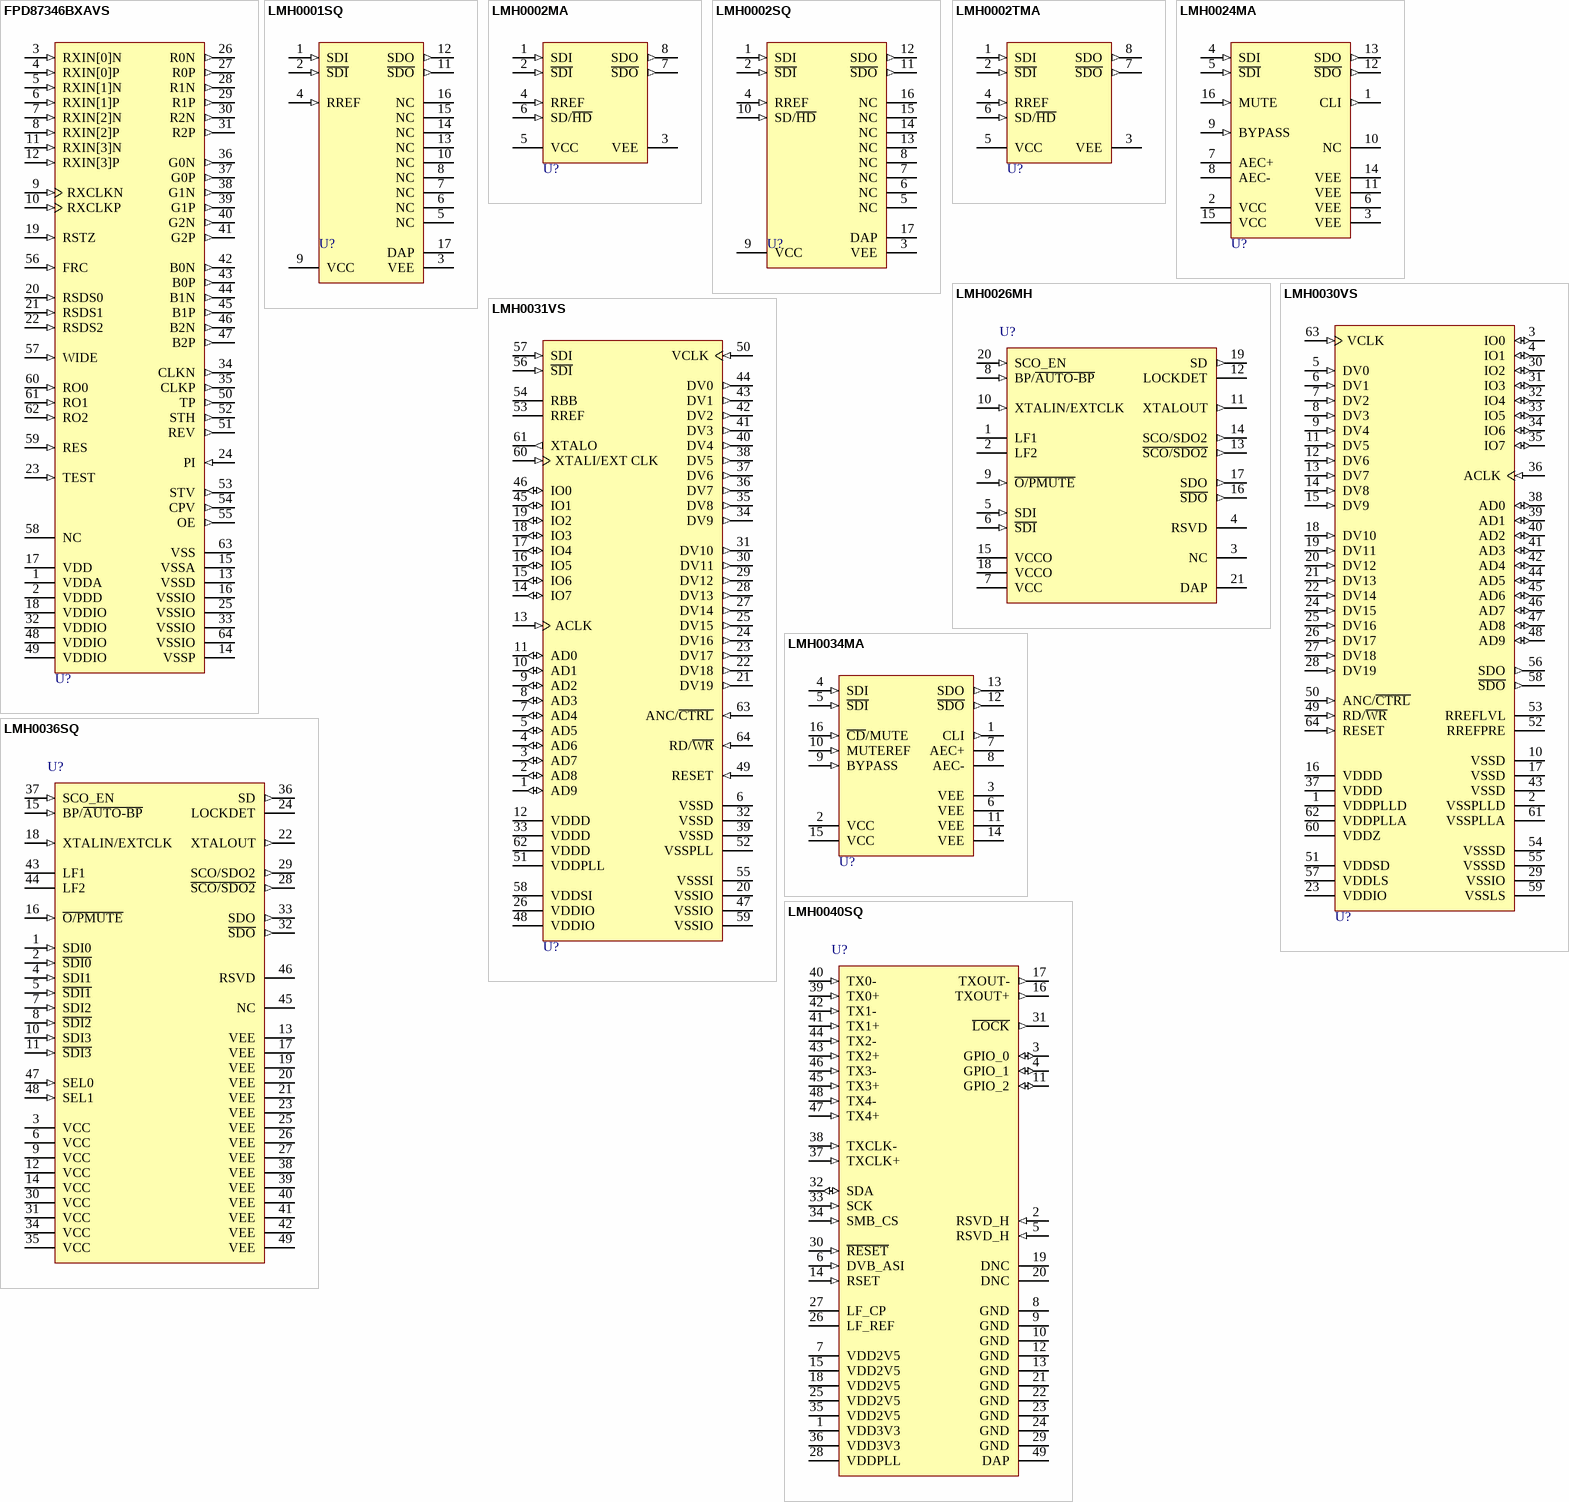
[diagram p29: symbols FPD87346BXAVS to LMH0040SQ]

## FPD87346BXAVS
designator U?
Low EMI, Low Dynamic Power (SVGA) XGA/WXGA TFT-LCD Timing Controller with Reduced Swing Differential Signaling (RSDS) Outputs; PartNumber: FPD87346BXAVS; Manufacturer: National Semiconductor; CompType: Interface IC; PackageTopMarking: NSUZXYYTT*FPD87346BXAVS*BBBBB; Published: 4-Dec-2008; DatasheetVersion: Oct-2003; PackageVersion: revB, Jul-2003; PackageReference: VEC64A; Publisher: Altium Limited; PackageDescription: TQFP, Jedec Metric, 10 x 10 x 1.0mm, 64 Lead, 0.5mm Pitch; RoHS: Y; PinCount: 64; Code_JEDEC: MS-026-ACD; ComponentLink1Description: FPD87346BXA Datasheet; ComponentLink1URL: http://www.national.com/ds/FP/FPD87346.pdf; ComponentLink2Description: FPD87346BXA Web Page; ComponentLink2URL: http://www.national.com/pf/FP/FPD87346BXA.html; ComponentLink3Description: VEC64A Package Page; ComponentLink3URL: http://www.national.com/packaging/folders/vec64a.html
footprint VEC64A_N (Thin QFP, 64-Leads, Body 10x10mm, Pitch 0.5mm, IPC Medium Density)
footprint VEC64A_L (Thin QFP, 64-Leads, Body 10x10mm, Pitch 0.5mm, IPC High Density)
footprint VEC64A_M (Thin QFP, 64-Leads, Body 10x10mm, Pitch 0.5mm, IPC Low Density)
pins: 1 VDDA (power), 2 VDDD (power), 3 RXIN[0]N (in), 4 RXIN[0]P (in), 5 RXIN[1]N (in), 6 RXIN[1]P (in), 7 RXIN[2]N (in), 8 RXIN[2]P (in), 9 RXCLKN (in), 10 RXCLKP (in), 11 RXIN[3]N (in), 12 RXIN[3]P (in), 13 VSSD (power), 14 VSSP (power), 15 VSSA (power), 16 VSSIO (power), 17 VDD (power), 18 VDDIO (power), 19 RSTZ (in), 20 RSDS0 (in), 21 RSDS1 (in), 22 RSDS2 (in), 23 TEST (in), 24 PI (in), 25 VSSIO (power), 26 R0N (out), 27 R0P (out), 28 R1N (out), 29 R1P (out), 30 R2N (out), 31 R2P (out), 32 VDDIO (power), 33 VSSIO (power), 34 CLKN (out), 35 CLKP (out), 36 G0N (out), 37 G0P (out), 38 G1N (out), 39 G1P (out), 40 G2N (out), 41 G2P (out), 42 B0N (out), 43 B0P (out), 44 B1N (out), 45 B1P (out), 46 B2N (out), 47 B2P (out), 48 VDDIO (power), 49 VDDIO (power), 50 TP (out), 51 REV (out), 52 STH (out), 53 STV (out), 54 CPV (out), 55 OE (out), 56 FRC (in), 57 WIDE (in), 58 NC, 59 RES (in), 60 RO0 (in), 61 RO1 (in), 62 RO2 (in), 63 VSS (power), 64 VSSIO (power)

## LMH0001SQ
designator U?
SMPTE 259M / 344M Serial Digital Cable Driver; PartNumber: LMH0001SQ; Manufacturer: National Semiconductor; CompType: Interface IC; PackageTopMarking: NS*UZXYTT*L001; PowerWise: N; Published: 4-Dec-2008; DatasheetVersion: Jan-2008; PackageVersion: revA, Dec-2005; PackageReference: SQB16A; Publisher: Altium Limited; PackageDescription: LLP, Plastic, Quad, 4 x 4 x 0.8mm, 16 Lead, 0.65mm Pitch, No Pullback; RoHS: Y; PinCount: 16; ComponentLink1Description: LMH0001 Datasheet; ComponentLink1URL: http://www.national.com/ds/LM/LMH0001.pdf; ComponentLink2Description: LMH0001 Web Page; ComponentLink2URL: http://www.national.com/pf/LM/LMH0001.html; ComponentLink3Description: SQB16A Package Page; ComponentLink3URL: http://www.national.com/packaging/folders/sqb16a.html
footprint SQB16A (QFN, 16-Leads, Body 4x4mm, Pitch 0.65mm, NSC Recommended)
pins: 1 SDI (in), 2 ~{SDI} (in), 3 VEE (power), 4 RREF (in), 5 NC, 6 NC, 7 NC, 8 NC, 9 VCC (power), 10 NC, 11 ~{SDO} (out), 12 SDO (out), 13 NC, 14 NC, 15 NC, 16 NC, 17 DAP (power)

## LMH0002MA
designator U?
SMPTE 292M / 259M Serial Digital Cable Driver; PartNumber: LMH0002MA; Manufacturer: National Semiconductor; CompType: Interface IC; PackageTopMarking: NSZXTT*L002; PowerWise: N; Published: 4-Dec-2008; DatasheetVersion: Oct-2006; PackageVersion: revL, Sep-2006; PackageReference: M08A; Publisher: Altium Limited; PackageDescription: SOIC Narrow, 4.9 x 3.9 x 1.45mm, 8 Lead, 1.27mm Pitch; RoHS: O; PinCount: 8; DigiKeyPartNumber: LMH0002MA-ND; Code_JEDEC: MS-012-AA; Code_IPC: SOIC127P600-8; ComponentLink1Description: LMH0002 Datasheet; ComponentLink1URL: http://www.national.com/ds/LM/LMH0002.pdf; ComponentLink2Description: LMH0002 Web Page; ComponentLink2URL: http://www.national.com/pf/LM/LMH0002.html; ComponentLink3Description: M08A Package Page; ComponentLink3URL: http://www.national.com/packaging/folders/m08a.html
footprint M08A_N (SOIC, 8-Leads, Body 4.9x3.9mm, Pitch 1.27mm, IPC Medium Density)
footprint M08A_L (SOIC, 8-Leads, Body 4.9x3.9mm, Pitch 1.27mm, IPC High Density)
footprint M08A_M (SOIC, 8-Leads, Body 4.9x3.9mm, Pitch 1.27mm, IPC Low Density)
pins: 1 SDI (in), 2 ~{SDI} (in), 3 VEE (power), 4 RREF (in), 5 VCC (power), 6 SD/~{HD} (in), 7 ~{SDO} (out), 8 SDO (out)

## LMH0002SQ
designator U?
SMPTE 292M / 259M Serial Digital Cable Driver; PartNumber: LMH0002SQ; Manufacturer: National Semiconductor; CompType: Interface IC; PackageTopMarking: NS*UZXYTT*L002; PowerWise: N; Published: 4-Dec-2008; DatasheetVersion: Oct-2006; PackageVersion: revA, Dec-2005; PackageReference: SQB16A; Publisher: Altium Limited; PackageDescription: LLP, Plastic, Quad, 4 x 4 x 0.8mm, 16 Lead, 0.65mm Pitch, No Pullback; RoHS: O; PinCount: 16; DigiKeyPartNumber: LMH0002SQTR-ND; ComponentLink1Description: LMH0002 Datasheet; ComponentLink1URL: http://www.national.com/ds/LM/LMH0002.pdf; ComponentLink2Description: LMH0002 Web Page; ComponentLink2URL: http://www.national.com/pf/LM/LMH0002.html; ComponentLink3Description: SQB16A Package Page; ComponentLink3URL: http://www.national.com/packaging/folders/sqb16a.html
footprint SQB16A (QFN, 16-Leads, Body 4x4mm, Pitch 0.65mm, NSC Recommended)
pins: 1 SDI (in), 2 ~{SDI} (in), 3 VEE (power), 4 RREF (in), 5 NC, 6 NC, 7 NC, 8 NC, 9 VCC (power), 10 SD/~{HD} (in), 11 ~{SDO} (out), 12 SDO (out), 13 NC, 14 NC, 15 NC, 16 NC, 17 DAP (power)

## LMH0002TMA
designator U?
SMPTE 292M / 259M Serial Digital Cable Driver; PartNumber: LMH0002TMA; Manufacturer: National Semiconductor; CompType: Interface IC; PackageTopMarking: NSZXTT*L002T; PowerWise: N; Published: 4-Dec-2008; DatasheetVersion: Oct-2006; PackageVersion: revL, Sep-2006; PackageReference: M08A; Publisher: Altium Limited; PackageDescription: SOIC Narrow, 4.9 x 3.9 x 1.45mm, 8 Lead, 1.27mm Pitch; RoHS: O; PinCount: 8; DigiKeyPartNumber: LMH0002TMA-ND; Code_JEDEC: MS-012-AA; Code_IPC: SOIC127P600-8; ComponentLink1Description: LMH0002 Datasheet; ComponentLink1URL: http://www.national.com/ds/LM/LMH0002.pdf; ComponentLink2Description: LMH0002 Web Page; ComponentLink2URL: http://www.national.com/pf/LM/LMH0002.html; ComponentLink3Description: M08A Package Page; ComponentLink3URL: http://www.national.com/packaging/folders/m08a.html
footprint M08A_N (SOIC, 8-Leads, Body 4.9x3.9mm, Pitch 1.27mm, IPC Medium Density)
footprint M08A_L (SOIC, 8-Leads, Body 4.9x3.9mm, Pitch 1.27mm, IPC High Density)
footprint M08A_M (SOIC, 8-Leads, Body 4.9x3.9mm, Pitch 1.27mm, IPC Low Density)
pins: 1 SDI (in), 2 ~{SDI} (in), 3 VEE (power), 4 RREF (in), 5 VCC (power), 6 SD/~{HD} (in), 7 ~{SDO} (out), 8 SDO (out)

## LMH0024MA
designator U?
LMH0024 SMPTE 259M / 259M Adaptive Cable Equalizer; PartNumber: LMH0024MA; Manufacturer: National Semiconductor; CompType: Interface IC; PackageTopMarking: NSUZXYTT*L024; PowerWise: N; Published: 4-Dec-2008; DatasheetVersion: Jan-2008; PackageVersion: revJ, Aug-1995; PackageReference: M16A; Publisher: Altium Limited; PackageDescription: Molded Package, S.O., .150in Wide, 16 Lead; RoHS: Y; PinCount: 16; DigiKeyPartNumber: LMH0024MA-ND; Code_JEDEC: MS-012-AC; Code_IPC: SOIC127P600-16; ComponentLink1Description: LMH0024 Datasheet; ComponentLink1URL: http://www.national.com/ds/LM/LMH0024.pdf; ComponentLink2Description: LMH0024 Web Page; ComponentLink2URL: http://www.national.com/pf/LM/LMH0024.html; ComponentLink3Description: M16A Package Page; ComponentLink3URL: http://www.national.com/packaging/folders/m16a.html
footprint M16A_N (SOIC, 16-Leads, Body 9.9x3.9mm, Pitch 1.27mm, IPC Medium Density)
footprint M16A_L (SOIC, 16-Leads, Body 9.9x3.9mm, Pitch 1.27mm, IPC High Density)
footprint M16A_M (SOIC, 16-Leads, Body 9.9x3.9mm, Pitch 1.27mm, IPC Low Density)
pins: 1 CLI (out), 2 VCC (power), 3 VEE (power), 4 SDI (in), 5 ~{SDI} (in), 6 VEE (power), 7 AEC+, 8 AEC-, 9 BYPASS (in), 10 NC, 11 VEE (power), 12 ~{SDO} (out), 13 SDO (out), 14 VEE (power), 15 VCC (power), 16 MUTE (in)

## LMH0026MH
designator U?
SD SDI Reclocker with Dual Differential Outputs; PartNumber: LMH0026MH; Manufacturer: National Semiconductor; CompType: Interface IC; PackageTopMarking: NSUZXYTT*L026; PowerWise: N; Published: 4-Dec-2008; DatasheetVersion: Mar-2008; PackageVersion: revC, Jul-2006; PackageReference: MXA20A; Publisher: Altium Limited; RoHS: Y; PinCount: 20; Code_JEDEC: MO-153-ACT; ComponentLink1Description: LMH0026 Datasheet; ComponentLink1URL: http://www.national.com/ds/LM/LMH0026.pdf; ComponentLink2Description: LMH0026 Web Page; ComponentLink2URL: http://www.national.com/pf/LM/LMH0026.html; ComponentLink3Description: MXA20A Package Page; ComponentLink3URL: http://www.national.com/packaging/folders/mxa20a.html
footprint MXA20A_N (TSOP, 20-Leads, Body 6.5x4.4mm, Pitch 0.65mm, Exposed Pad, IPC Medium Density)
footprint MXA20A_L (TSOP, 20-Leads, Body 6.5x4.4mm, Pitch 0.65mm, Exposed Pad, IPC High Density)
footprint MXA20A_M (TSOP, 20-Leads, Body 6.5x4.4mm, Pitch 0.65mm, Exposed Pad, IPC Low Density)
pins: 1 LF1, 2 LF2, 3 NC, 4 RSVD, 5 SDI (in), 6 ~{SDI} (in), 7 VCC (power), 8 BP/~{AUTO-BP} (in), 9 ~{O/PMUTE} (in), 10 XTALIN/EXTCLK (in), 11 XTALOUT (out), 12 LOCKDET, 13 ~{SCO/SDO2} (out), 14 SCO/SDO2 (out), 15 VCCO (power), 16 ~{SDO} (out), 17 SDO (out), 18 VCCO (power), 19 SD (out), 20 SCO_EN (in), 21 DAP (power)

## LMH0030VS
designator U?
SMPTE 292M / 259M Digital Video Serializer with Ancilliary Data FIFO and Integrated Cable Driver; PartNumber: LMH0030VS; Manufacturer: National Semiconductor; CompType: Interface IC; PackageTopMarking: NSUZXYYTT*L030; PowerWise: N; Published: 4-Dec-2008; DatasheetVersion: Aug-2006; PackageVersion: revB, Jul-2003; PackageReference: VEC64A; Publisher: Altium Limited; PackageDescription: TQFP, Jedec Metric, 10 x 10 x 1.0mm, 64 Lead, 0.5mm Pitch; RoHS: O; PinCount: 64; DigiKeyPartNumber: LMH0030VS-ND; Code_JEDEC: MS-026-ACD; ComponentLink1Description: LMH0030 Datasheet; ComponentLink1URL: http://www.national.com/ds/LM/LMH0030.pdf; ComponentLink2Description: LMH0030 Web Page; ComponentLink2URL: http://www.national.com/pf/LM/LMH0030.html; ComponentLink3Description: VEC64A Package Page; ComponentLink3URL: http://www.national.com/packaging/folders/vec64a.html
footprint VEC64A_N (Thin QFP, 64-Leads, Body 10x10mm, Pitch 0.5mm, IPC Medium Density)
footprint VEC64A_L (Thin QFP, 64-Leads, Body 10x10mm, Pitch 0.5mm, IPC High Density)
footprint VEC64A_M (Thin QFP, 64-Leads, Body 10x10mm, Pitch 0.5mm, IPC Low Density)
pins: 1 VDDPLLD (power), 2 VSSPLLD (power), 3 IO0 (io), 4 IO1 (io), 5 DV0 (in), 6 DV1 (in), 7 DV2 (in), 8 DV3 (in), 9 DV4 (in), 10 VSSD (power), 11 DV5 (in), 12 DV6 (in), 13 DV7 (in), 14 DV8 (in), 15 DV9 (in), 16 VDDD (power), 17 VSSD (power), 18 DV10 (in), 19 DV11 (in), 20 DV12 (in), 21 DV13 (in), 22 DV14 (in), 23 VDDIO (power), 24 DV15 (in), 25 DV16 (in), 26 DV17 (in), 27 DV18 (in), 28 DV19 (in), 29 VSSIO (power), 30 IO2 (io), 31 IO3 (io), 32 IO4 (io), 33 IO5 (io), 34 IO6 (io), 35 IO7 (io), 36 ACLK (in), 37 VDDD (power), 38 AD0 (io), 39 AD1 (io), 40 AD2 (io), 41 AD3 (io), 42 AD4 (io), 43 VSSD (power), 44 AD5 (io), 45 AD6 (io), 46 AD7 (io), 47 AD8 (io), 48 AD9 (io), 49 RD/~{WR} (in), 50 ANC/~{CTRL} (in), 51 VDDSD (power), 52 RREFPRE, 53 RREFLVL, 54 VSSSD (power), 55 VSSSD (power), 56 SDO (out), 57 VDDLS (power), 58 ~{SDO} (out), 59 VSSLS (power), 60 VDDZ (power), 61 VSSPLLA (power), 62 VDDPLLA (power), 63 VCLK (in), 64 RESET (in)

## LMH0031VS
designator U?
SMPTE 292M/259M Digital Video Deserializer / Descrambler with Video and Ancillary Data FIFOs; PartNumber: LMH0031VS; Manufacturer: National Semiconductor; CompType: Interface IC; PackageTopMarking: NSUZXYYTT*L031; PowerWise: N; Published: 4-Dec-2008; DatasheetVersion: Jan-2006; PackageVersion: revB, Jul-2003; PackageReference: VEC64A; Publisher: Altium Limited; PackageDescription: TQFP, Jedec Metric, 10 x 10 x 1.0mm, 64 Lead, 0.5mm Pitch; RoHS: O; PinCount: 64; DigiKeyPartNumber: LMH0031VS-ND; Code_JEDEC: MS-026-ACD; ComponentLink1Description: LMH0031 Datasheet; ComponentLink1URL: http://www.national.com/ds/LM/LMH0031.pdf; ComponentLink2Description: LMH0031 Web Page; ComponentLink2URL: http://www.national.com/pf/LM/LMH0031.html; ComponentLink3Description: VEC64A Package Page; ComponentLink3URL: http://www.national.com/packaging/folders/vec64a.html
footprint VEC64A_N (Thin QFP, 64-Leads, Body 10x10mm, Pitch 0.5mm, IPC Medium Density)
footprint VEC64A_L (Thin QFP, 64-Leads, Body 10x10mm, Pitch 0.5mm, IPC High Density)
footprint VEC64A_M (Thin QFP, 64-Leads, Body 10x10mm, Pitch 0.5mm, IPC Low Density)
pins: 1 AD9 (io), 2 AD8 (io), 3 AD7 (io), 4 AD6 (io), 5 AD5 (io), 6 VSSD (power), 7 AD4 (io), 8 AD3 (io), 9 AD2 (io), 10 AD1 (io), 11 AD0 (io), 12 VDDD (power), 13 ACLK (in), 14 IO7 (io), 15 IO6 (io), 16 IO5 (io), 17 IO4 (io), 18 IO3 (io), 19 IO2 (io), 20 VSSIO (power), 21 DV19 (out), 22 DV18 (out), 23 DV17 (out), 24 DV16 (out), 25 DV15 (out), 26 VDDIO (power), 27 DV14 (out), 28 DV13 (out), 29 DV12 (out), 30 DV11 (out), 31 DV10 (out), 32 VSSD (power), 33 VDDD (power), 34 DV9 (out), 35 DV8 (out), 36 DV7 (out), 37 DV6 (out), 38 DV5 (out), 39 VSSD (power), 40 DV4 (out), 41 DV3 (out), 42 DV2 (out), 43 DV1 (out), 44 DV0 (out), 45 IO1 (io), 46 IO0 (io), 47 VSSIO (power), 48 VDDIO (power), 49 RESET (in), 50 VCLK (in), 51 VDDPLL (power), 52 VSSPLL (power), 53 RREF, 54 RBB, 55 VSSSI (power), 56 ~{SDI} (in), 57 SDI (in), 58 VDDSI (power), 59 VSSIO (power), 60 XTALI/EXT CLK (in), 61 XTALO (out), 62 VDDD (power), 63 ANC/~{CTRL} (in), 64 RD/~{WR} (in)